# EAGLE library part ADV7513BSWZ (library analog-devices-hdmi-transmitter-ADV7513BSWZ)
Analog Devices, ADV7513BSWZ ADV7513BSWZ, HDMI Transmitter for DDR, HDMI, ITU656, RGB, SPDIF Stereo LPCM, YCbCr, 8-channel, 64-Pin LQFP Source: Datasheet <https://componentsearchengine.com/Datasheets/2/ADV7513BSWZ.pdf>
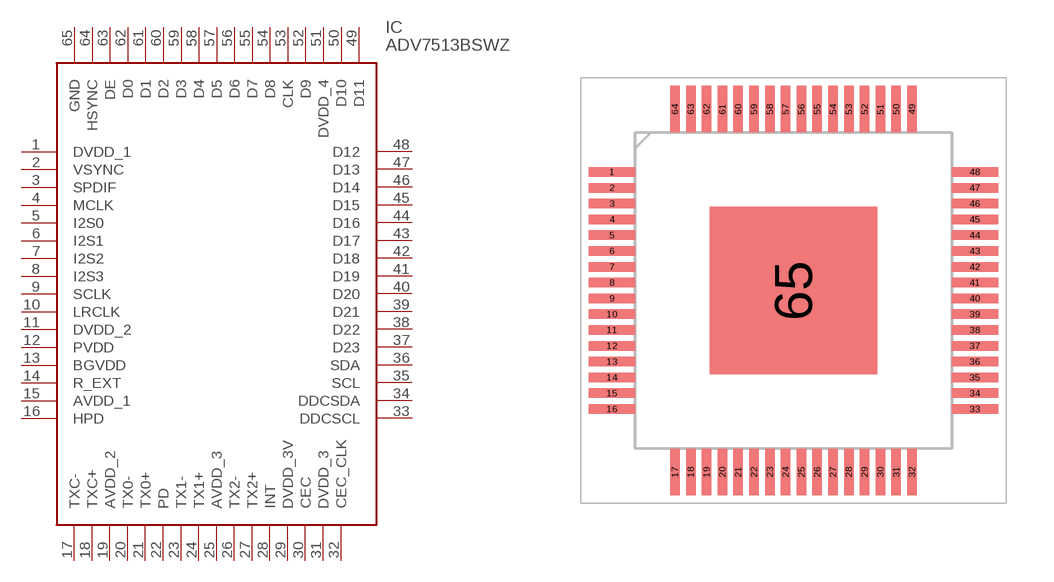
[diagram p0: symbol with the pads of QFP50P1200X1200X160-65N; footprint QFP50P1200X1200X160-65N]

Designator prefix IC

## ADV7513BSWZ (Arrow_Part_Number: ADV7513BSWZ; Arrow_Price-Stock: https://www.arrow.com/en/products/adv7513bswz/analog-devices?region=europe; Description: Analog Devices, ADV7513BSWZ ADV7513BSWZ, HDMI Transmitter for DDR, HDMI, ITU656, RGB, SPDIF Stereo LPCM, YCbCr, 8-channel, 64-Pin LQFP; Height: 1.6mm; Manufacturer_Name: Analog Devices; Manufacturer_Part_Number: ADV7513BSWZ; Mouser_Part_Number: 584-ADV7513BSWZ; Mouser_Price-Stock: https://www.mouser.co.uk/ProductDetail/Analog-Devices/ADV7513BSWZ?qs=WIvQP4zGanhTiE0U2ueahA%3D%3D)  [QFP50P1200X1200X160-65N]
1  DVDD_1
2  VSYNC
3  SPDIF
4  MCLK
5  I2S0
6  I2S1
7  I2S2
8  I2S3
9  SCLK
10  LRCLK
11  DVDD_2
12  PVDD
13  BGVDD
14  R_EXT
15  AVDD_1
16  HPD
17  TXC-
18  TXC+
19  AVDD_2
20  TX0-
21  TX0+
22  PD
23  TX1-
24  TX1+
25  AVDD_3
26  TX2-
27  TX2+
28  INT
29  DVDD_3V
30  CEC
31  DVDD_3
32  CEC_CLK
33  DDCSCL
34  DDCSDA
35  SCL
36  SDA
37  D23
38  D22
39  D21
40  D20
41  D19
42  D18
43  D17
44  D16
45  D15
46  D14
47  D13
48  D12
49  D11
50  D10
51  DVDD_4
52  D9
53  CLK
54  D8
55  D7
56  D6
57  D5
58  D4
59  D3
60  D2
61  D1
62  D0
63  DE
64  HSYNC
65  GND

## Footprint QFP50P1200X1200X160-65N (pad centres in mm)
ADV7513BSWZ-1
smd 1.475 x 0.3: 1 -5.738,3.75; 2 -5.738,3.25; 3 -5.738,2.75; 4 -5.738,2.25; 5 -5.738,1.75; 6 -5.738,1.25; 7 -5.738,0.75; 8 -5.738,0.25; 9 -5.738,-0.25; 10 -5.738,-0.75; 11 -5.738,-1.25; 12 -5.738,-1.75; 13 -5.738,-2.25; 14 -5.738,-2.75; 15 -5.738,-3.25; 16 -5.738,-3.75; 33 5.738,-3.75; 34 5.738,-3.25; 35 5.738,-2.75; 36 5.738,-2.25; 37 5.738,-1.75; 38 5.738,-1.25; 39 5.738,-0.75; 40 5.738,-0.25; 41 5.738,0.25; 42 5.738,0.75; 43 5.738,1.25; 44 5.738,1.75; 45 5.738,2.25; 46 5.738,2.75; 47 5.738,3.25; 48 5.738,3.75
smd 0.3 x 1.475: 17 -3.75,-5.738; 18 -3.25,-5.738; 19 -2.75,-5.738; 20 -2.25,-5.738; 21 -1.75,-5.738; 22 -1.25,-5.738; 23 -0.75,-5.738; 24 -0.25,-5.738; 25 0.25,-5.738; 26 0.75,-5.738; 27 1.25,-5.738; 28 1.75,-5.738; 29 2.25,-5.738; 30 2.75,-5.738; 31 3.25,-5.738; 32 3.75,-5.738; 49 3.75,5.738; 50 3.25,5.738; 51 2.75,5.738; 52 2.25,5.738; 53 1.75,5.738; 54 1.25,5.738; 55 0.75,5.738; 56 0.25,5.738; 57 -0.25,5.738; 58 -0.75,5.738; 59 -1.25,5.738; 60 -1.75,5.738; 61 -2.25,5.738; 62 -2.75,5.738; 63 -3.25,5.738; 64 -3.75,5.738
smd 5.3 x 5.3: 65 0,0